# Altium schematic symbol library MB0027A.01.A.1.SchLib: 1 symbol
Pins are listed as number, name and electrical type; pins without a type are passive.

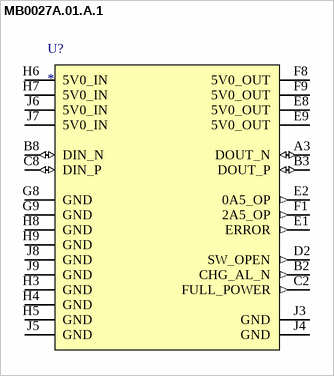
[diagram p0: symbol MB0027A.01.A.1]

## MB0027A.01.A.1
designator U?
pins: A3 DOUT_N (io), B2 CHG_AL_N (out), B3 DOUT_P (io), B8 DIN_N (io), C2 FULL_POWER (out), C8 DIN_P (io), D2 SW_OPEN (out), E1 ERROR (out), E2 0A5_OP (out), E8 5V0_OUT (power), E9 5V0_OUT (power), F1 2A5_OP (out), F8 5V0_OUT (power), F9 5V0_OUT (power), G8 GND (power), G9 GND (power), H3 GND (power), H4 GND (power), H5 GND (power), H6 5V0_IN (power), H7 5V0_IN (power), H8 GND (power), H9 GND (power), J3 GND (power), J4 GND (power), J5 GND (power), J6 5V0_IN (power), J7 5V0_IN (power), J8 GND (power), J9 GND (power)